# Altium schematic symbol library SCH - DIODES - BYS12-90.SCHLIB: 1 symbol
Pins are listed as number, name and electrical type; pins without a type are passive.

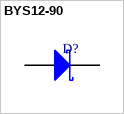
[diagram p0: symbol BYS12-90]

## BYS12-90
designator D?
Schottky Diode; MPN: BYS12-90-E3/TR3; MF: Vishay; Forward Voltage: 750mV; Reverse Voltage: 90V; Rated Current: 1.5A; Package: DO-214AC; Supplier 1: Farnell; Supplier 2: Mouser; Supplier 3: Digi-Key; Supplier Part Number 1: 2889144; Supplier Part Number 2: 625-BYS12-90-E3/TR3; Supplier Part Number 3: BYS12-90-E3/GICT-ND
footprint DIOM4227X23N (Molded Diode, 2-Leads, Body 4,25x2,67mm, IPC Medium Density)
pins: 1 K, 2 A